# Altium schematic symbol library IDT.SchLib: 1 symbol
Pins are listed as number, name and electrical type; pins without a type are passive.

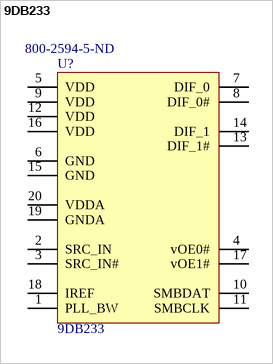
[diagram p0: symbol 9DB233]

## 9DB233
designator U?  Supplier Part Number 1: 800-2594-5-ND
Two Output Differential Buffer for PCIE GEN3; Supplier 1: Digi-Key
footprint TSOP65P640X120-20L (TSOP, 20-Leads, Body 6,50x4,40mm, Pitch 0,65mm, IPC High Density)
pins: 1 PLL_BW, 2 SRC_IN, 3 SRC_IN#, 4 vOE0#, 5 VDD, 6 GND, 7 DIF_0, 8 DIF_0#, 9 VDD, 10 SMBDAT, 11 SMBCLK, 12 VDD, 13 DIF_1#, 14 DIF_1, 15 GND, 16 VDD, 17 vOE1#, 18 IREF, 19 GNDA, 20 VDDA